# Altium schematic symbol library RES_1k_5%_0.1W_0603.SchLib: 1 symbol
Pins are listed as number, name and electrical type; pins without a type are passive.

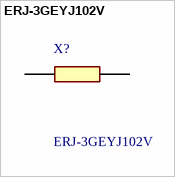
[diagram p0: symbol ERJ-3GEYJ102V]

## ERJ-3GEYJ102V
designator X?
Thick Film Resistors - SMD 0603 1Kohms 5% AEC-Q200; Manufacturer_Name: Panasonic; Geometry.Height: 0.55mm; Manufacturer_Part_Number: ERJ-3GEYJ102V; Mouser Part Number: 667-ERJ-3GEYJ102V; Mouser Price/Stock: https://www.mouser.co.uk/ProductDetail/Panasonic/ERJ-3GEYJ102V?qs=66DK8nO8gJBFiTsClorqsA%3D%3D; Arrow Part Number: ERJ-3GEYJ102V; Arrow Price/Stock: https://www.arrow.com/en/products/erj-3geyj102v/panasonic?region=nac; Datasheet Link: http://docs-europe.electrocomponents.com/webdocs/13ba/0900766b813ba21b.pdf
footprint ERJ3EKF1000V
pins: 1, 2